# EAGLE library part ATMEGA328P (library piweather)
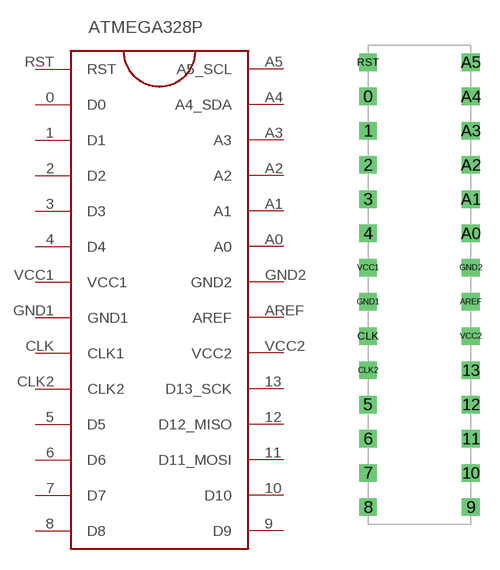
[diagram p0: symbol with the pads of ATMEGA328P; footprint ATMEGA328P]

Designator prefix -

## ATMEGA328PARDUINO  [ATMEGA328P]
0  D0
1  D1
2  D2
3  D3
4  D4
5  D5
6  D6
7  D7
8  D8
9  D9
10  D10
11  D11_MOSI
12  D12_MISO
13  D13_SCK
A0  A0
A1  A1
A2  A2
A3  A3
A4  A4_SDA
A5  A5_SCL
AREF  AREF
CLK  CLK1
CLK2  CLK2
GND1  GND1
GND2  GND2
RST  RST
VCC1  VCC1
VCC2  VCC2

## Footprint ATMEGA328P (pad centres in mm)
drill 0.8 square: 0 -3.81,11.43; 1 -3.81,8.89; 2 -3.81,6.35; 3 -3.81,3.81; 4 -3.81,1.27; 5 -3.81,-11.43; 6 -3.81,-13.97; 7 -3.81,-16.51; 8 -3.81,-19.05; 9 3.81,-19.05; 10 3.81,-16.51; 11 3.81,-13.97; 12 3.81,-11.43; 13 3.81,-8.89; A0 3.81,1.27; A1 3.81,3.81; A2 3.81,6.35; A3 3.81,8.89; A4 3.81,11.43; A5 3.81,13.97; AREF 3.81,-3.81; CLK -3.81,-6.35; CLK2 -3.81,-8.89; GND1 -3.81,-3.81; GND2 3.81,-1.27; RST -3.81,13.97; VCC1 -3.81,-1.27; VCC2 3.81,-6.35